# Altium schematic symbol library TI_TXB0101.SchLib: 1 symbol
Pins are listed as number, name and electrical type; pins without a type are passive.

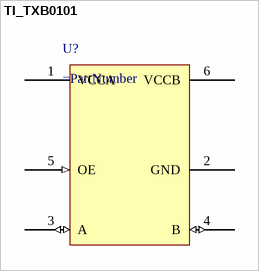
[diagram p0: symbol TI_TXB0101]

## TI_TXB0101
designator U?
pins: 1 VCCA, 2 GND, 3 A (io), 4 B (io), 5 OE (in), 6 VCCB